# Altium footprint library LED_805.PcbLib: 1 footprints
Each footprint in its own frame and in the unit in brackets; x right, y up, seen from the top. Pads: shape width x height; smd on the part's side, far side on the other; paste and mask are expansions set on the pad; w line width, h text height; cw(c..) or ccw(c..) is an arc to the next point about the centre after c.
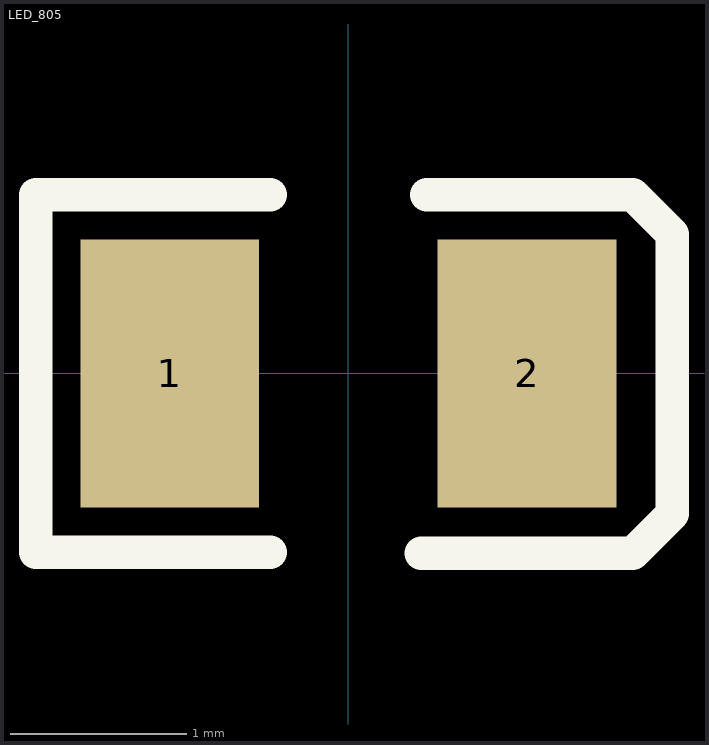
[diagram p0: the footprint, top view; thin cyan lines are the x and y axes]

## LED_805 [mil]
pads (2):
  rect 40x60 smd: 1(-40,0) 2(40,0)
Top Overlay:
  lines w7.5: -17.5,-40 -70,-40 -70,40 -17.5,40 ; 16.3,-40.28 63.7,-40.28 72.5,-31.47 72.5,31.2 63.7,40 17.5,40
3D body "capacitor 0805.step": height 35.43, standoff 0, extent -39.38,-24.6 39.36,24.6